# EAGLE library part MOLEX-M8 (library CaliBeta-Conectores)
Conector ZCN de 5 pines, separacion 2.54mm
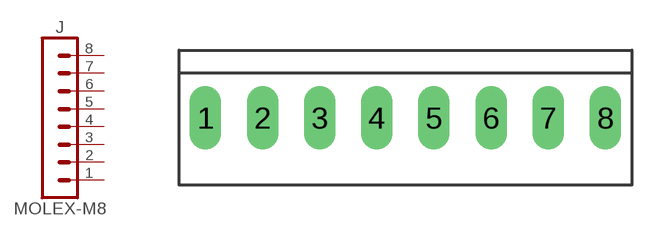
[diagram p4: symbol with the pads of MOLEX-2.54MM-M8; footprint MOLEX-2.54MM-M8]

Designator prefix J

## MOLEX-M8  [MOLEX-2.54MM-M8]
1  1  pas
2  2  pas
3  3  pas
4  4  pas
5  5  pas
6  6  pas
7  7  pas
8  8  pas

## Footprint MOLEX-2.54MM-M8 (pad centres in mm)
drill 0.9 long: 1 -8.89,0; 2 -6.35,0; 3 -3.81,0; 4 -1.27,0; 5 1.27,0; 6 3.81,0; 7 6.35,0; 8 8.89,0